# Altium schematic symbol library sym-0027.SchLib: 1 symbol
Pins are listed as number, name and electrical type; pins without a type are passive.

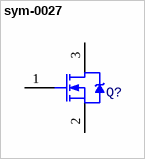
[diagram p0: symbol sym-0027]

## sym-0027
designator Q?
Generic 3 Pin 1 Channel N-Channel Power MOSFET, NMOS
pins: 1 G, 2 S, 3 D